# EAGLE library part SM05B-SRSS-TB(LF)(SN) (library ts_custom_nick_nacks)
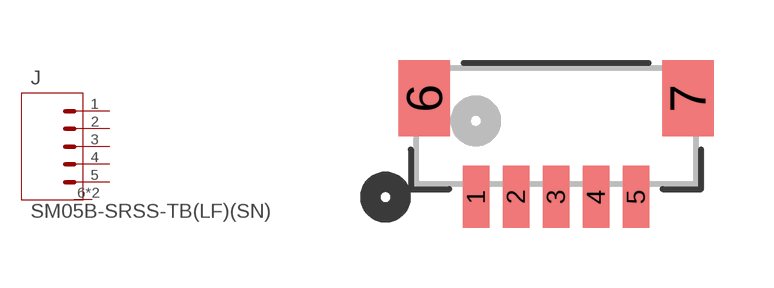
[diagram p17: symbol with the pads of CONN5_SM05B-SRSS_JST; footprint CONN5_SM05B-SRSS_JST]

Designator prefix J

## SM05B-SRSS-TB(LF)(SN) (COPYRIGHT: Copyright (C) 2024 Ultra Librarian. All rights reserved.; MANUFACTURER_PART_NUMBER: SM05B-SRSS-TB(LF)(SN); MFR_NAME: JST; TYPE: Headers, Male Pins)  [CONN5_SM05B-SRSS_JST]
1  P$1
2  P$2
3  P$3
4  P$4
5  P$5
6  P$6
7  P$6

## Footprint CONN5_SM05B-SRSS_JST (pad centres in mm)
smd 0.66 x 1.549: 1 -2,-1.772; 2 -1,-1.772; 3 0,-1.772; 4 1,-1.772; 5 2,-1.772
smd 1.295 x 1.905: 6 -3.3,0.698; 7 3.3,0.698